# Altium schematic symbol library Schematic-Lib-JVillodres.SchLib: 34 symbols
Pins are listed as number, name and electrical type; pins without a type are passive.

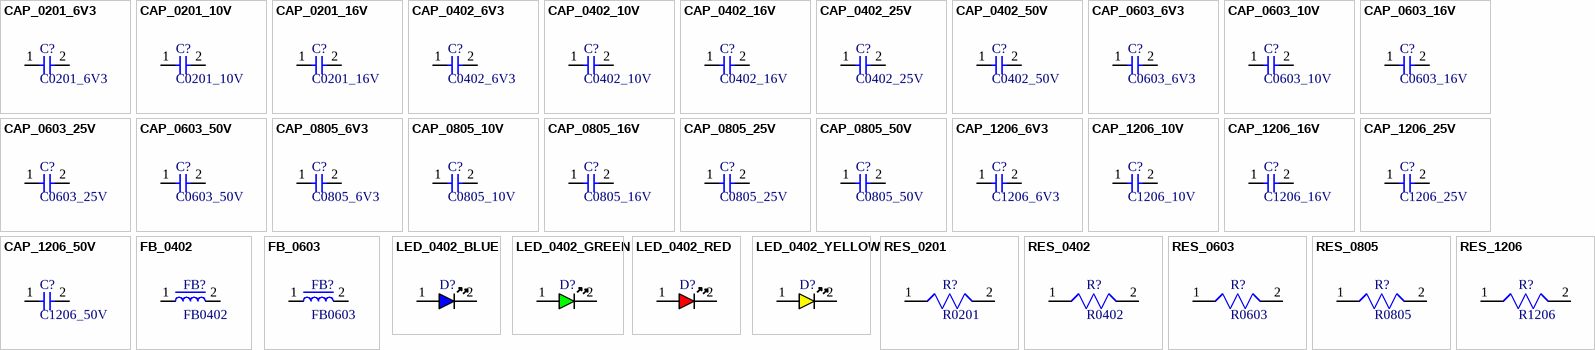
[diagram p0: symbols CAP_0201_6V3 to RES_1206]

## CAP_0201_6V3
designator C?, comment C0201_6V3
Capacitor SMD 0201 6.3V
footprint CAPC0603X23N (Chip Capacitor, 2-Leads, Body 0,60x0,30mm, IPC Medium Density)
footprint CAPC0603X23L (Chip Capacitor, 2-Leads, Body 0,60x0,30mm, IPC High Density)
footprint CAPC0603X23M (Chip Capacitor, 2-Leads, Body 0,60x0,30mm, IPC Low Density)
pins: 1, 2

## CAP_0201_10V
designator C?, comment C0201_10V
Capacitor SMD 0201 10V
footprint CAPC0603X23N (Chip Capacitor, 2-Leads, Body 0,60x0,30mm, IPC Medium Density)
footprint CAPC0603X23L (Chip Capacitor, 2-Leads, Body 0,60x0,30mm, IPC High Density)
footprint CAPC0603X23M (Chip Capacitor, 2-Leads, Body 0,60x0,30mm, IPC Low Density)
pins: 1, 2

## CAP_0201_16V
designator C?, comment C0201_16V
Capacitor SMD 0201 16V
footprint CAPC0603X23N (Chip Capacitor, 2-Leads, Body 0,60x0,30mm, IPC Medium Density)
footprint CAPC0603X23L (Chip Capacitor, 2-Leads, Body 0,60x0,30mm, IPC High Density)
footprint CAPC0603X23M (Chip Capacitor, 2-Leads, Body 0,60x0,30mm, IPC Low Density)
pins: 1, 2

## CAP_0402_6V3
designator C?, comment C0402_6V3
Capacitor SMD 0402 6.3V
footprint CAPC1005X55L (Chip Capacitor, 2-Leads, Body 1,00x0,50mm, IPC High Density)
footprint CAPC1005X55M (Chip Capacitor, 2-Leads, Body 1,00x0,50mm, IPC Low Density)
footprint CAPC1005X55N (Chip Capacitor, 2-Leads, Body 1,00x0,50mm, IPC Medium Density)
pins: 1, 2

## CAP_0402_10V
designator C?, comment C0402_10V
Capacitor SMD 0402 10V
footprint CAPC1005X55L (Chip Capacitor, 2-Leads, Body 1,00x0,50mm, IPC High Density)
footprint CAPC1005X55M (Chip Capacitor, 2-Leads, Body 1,00x0,50mm, IPC Low Density)
footprint CAPC1005X55N (Chip Capacitor, 2-Leads, Body 1,00x0,50mm, IPC Medium Density)
pins: 1, 2

## CAP_0402_16V
designator C?, comment C0402_16V
Capacitor SMD 0402 16V
footprint CAPC1005X55L (Chip Capacitor, 2-Leads, Body 1,00x0,50mm, IPC High Density)
footprint CAPC1005X55M (Chip Capacitor, 2-Leads, Body 1,00x0,50mm, IPC Low Density)
footprint CAPC1005X55N (Chip Capacitor, 2-Leads, Body 1,00x0,50mm, IPC Medium Density)
pins: 1, 2

## CAP_0402_25V
designator C?, comment C0402_25V
Capacitor SMD 0402 25V
footprint CAPC1005X55L (Chip Capacitor, 2-Leads, Body 1,00x0,50mm, IPC High Density)
footprint CAPC1005X55M (Chip Capacitor, 2-Leads, Body 1,00x0,50mm, IPC Low Density)
footprint CAPC1005X55N (Chip Capacitor, 2-Leads, Body 1,00x0,50mm, IPC Medium Density)
pins: 1, 2

## CAP_0402_50V
designator C?, comment C0402_50V
Capacitor SMD 0402 50V
footprint CAPC1005X55L (Chip Capacitor, 2-Leads, Body 1,00x0,50mm, IPC High Density)
footprint CAPC1005X55M (Chip Capacitor, 2-Leads, Body 1,00x0,50mm, IPC Low Density)
footprint CAPC1005X55N (Chip Capacitor, 2-Leads, Body 1,00x0,50mm, IPC Medium Density)
pins: 1, 2

## CAP_0603_6V3
designator C?, comment C0603_6V3
Capacitor SMD 0603 6.3V
footprint CAPC1608X90L (Chip Capacitor, 2-Leads, Body 1,60x0,80mm, IPC High Density)
footprint CAPC1608X90M (Chip Capacitor, 2-Leads, Body 1,60x0,80mm, IPC Low Density)
footprint CAPC1608X90N (Chip Capacitor, 2-Leads, Body 1,60x0,80mm, IPC Medium Density)
pins: 1, 2

## CAP_0603_10V
designator C?, comment C0603_10V
Capacitor SMD 0603 10V
footprint CAPC1608X90L (Chip Capacitor, 2-Leads, Body 1,60x0,80mm, IPC High Density)
footprint CAPC1608X90M (Chip Capacitor, 2-Leads, Body 1,60x0,80mm, IPC Low Density)
footprint CAPC1608X90N (Chip Capacitor, 2-Leads, Body 1,60x0,80mm, IPC Medium Density)
pins: 1, 2

## CAP_0603_16V
designator C?, comment C0603_16V
Capacitor SMD 0603 16V
footprint CAPC1608X90L (Chip Capacitor, 2-Leads, Body 1,60x0,80mm, IPC High Density)
footprint CAPC1608X90M (Chip Capacitor, 2-Leads, Body 1,60x0,80mm, IPC Low Density)
footprint CAPC1608X90N (Chip Capacitor, 2-Leads, Body 1,60x0,80mm, IPC Medium Density)
pins: 1, 2

## CAP_0603_25V
designator C?, comment C0603_25V
Capacitor SMD 0603 25V
footprint CAPC1608X90L (Chip Capacitor, 2-Leads, Body 1,60x0,80mm, IPC High Density)
footprint CAPC1608X90M (Chip Capacitor, 2-Leads, Body 1,60x0,80mm, IPC Low Density)
footprint CAPC1608X90N (Chip Capacitor, 2-Leads, Body 1,60x0,80mm, IPC Medium Density)
pins: 1, 2

## CAP_0603_50V
designator C?, comment C0603_50V
Capacitor SMD 0603 50V
footprint CAPC1608X90L (Chip Capacitor, 2-Leads, Body 1,60x0,80mm, IPC High Density)
footprint CAPC1608X90M (Chip Capacitor, 2-Leads, Body 1,60x0,80mm, IPC Low Density)
footprint CAPC1608X90N (Chip Capacitor, 2-Leads, Body 1,60x0,80mm, IPC Medium Density)
pins: 1, 2

## CAP_0805_6V3
designator C?, comment C0805_6V3
Capacitor SMD 0805 6.3V
footprint CAPC2012X95L (Chip Capacitor, 2-Leads, Body 2,00x1,25mm, IPC High Density)
footprint CAPC2012X95M (Chip Capacitor, 2-Leads, Body 2,00x1,25mm, IPC Low Density)
footprint CAPC2012X95N (Chip Capacitor, 2-Leads, Body 2,00x1,25mm, IPC Medium Density)
pins: 1, 2

## CAP_0805_10V
designator C?, comment C0805_10V
Capacitor SMD 0805 10V
footprint CAPC2012X95L (Chip Capacitor, 2-Leads, Body 2,00x1,25mm, IPC High Density)
footprint CAPC2012X95M (Chip Capacitor, 2-Leads, Body 2,00x1,25mm, IPC Low Density)
footprint CAPC2012X95N (Chip Capacitor, 2-Leads, Body 2,00x1,25mm, IPC Medium Density)
pins: 1, 2

## CAP_0805_16V
designator C?, comment C0805_16V
Capacitor SMD 0805 16V
footprint CAPC2012X95L (Chip Capacitor, 2-Leads, Body 2,00x1,25mm, IPC High Density)
footprint CAPC2012X95M (Chip Capacitor, 2-Leads, Body 2,00x1,25mm, IPC Low Density)
footprint CAPC2012X95N (Chip Capacitor, 2-Leads, Body 2,00x1,25mm, IPC Medium Density)
pins: 1, 2

## CAP_0805_25V
designator C?, comment C0805_25V
Capacitor SMD 0805 25V
footprint CAPC2012X95L (Chip Capacitor, 2-Leads, Body 2,00x1,25mm, IPC High Density)
footprint CAPC2012X95M (Chip Capacitor, 2-Leads, Body 2,00x1,25mm, IPC Low Density)
footprint CAPC2012X95N (Chip Capacitor, 2-Leads, Body 2,00x1,25mm, IPC Medium Density)
pins: 1, 2

## CAP_0805_50V
designator C?, comment C0805_50V
Capacitor SMD 0805 50V
footprint CAPC2012X95L (Chip Capacitor, 2-Leads, Body 2,00x1,25mm, IPC High Density)
footprint CAPC2012X95M (Chip Capacitor, 2-Leads, Body 2,00x1,25mm, IPC Low Density)
footprint CAPC2012X95N (Chip Capacitor, 2-Leads, Body 2,00x1,25mm, IPC Medium Density)
pins: 1, 2

## CAP_1206_6V3
designator C?, comment C1206_6V3
Capacitor SMD 1206 6.3V
footprint CAPC3216X180L (Chip Capacitor, 2-Leads, Body 3,20x1,60mm, IPC High Density)
footprint CAPC3216X180M (Chip Capacitor, 2-Leads, Body 3,20x1,60mm, IPC Low Density)
footprint CAPC3216X180N (Chip Capacitor, 2-Leads, Body 3,20x1,60mm, IPC Medium Density)
pins: 1, 2

## CAP_1206_10V
designator C?, comment C1206_10V
Capacitor SMD 1206 10V
footprint CAPC3216X180L (Chip Capacitor, 2-Leads, Body 3,20x1,60mm, IPC High Density)
footprint CAPC3216X180M (Chip Capacitor, 2-Leads, Body 3,20x1,60mm, IPC Low Density)
footprint CAPC3216X180N (Chip Capacitor, 2-Leads, Body 3,20x1,60mm, IPC Medium Density)
pins: 1, 2

## CAP_1206_16V
designator C?, comment C1206_16V
Capacitor SMD 1206 16V
footprint CAPC3216X180L (Chip Capacitor, 2-Leads, Body 3,20x1,60mm, IPC High Density)
footprint CAPC3216X180M (Chip Capacitor, 2-Leads, Body 3,20x1,60mm, IPC Low Density)
footprint CAPC3216X180N (Chip Capacitor, 2-Leads, Body 3,20x1,60mm, IPC Medium Density)
pins: 1, 2

## CAP_1206_25V
designator C?, comment C1206_25V
Capacitor SMD 1206 25V
footprint CAPC3216X180L (Chip Capacitor, 2-Leads, Body 3,20x1,60mm, IPC High Density)
footprint CAPC3216X180M (Chip Capacitor, 2-Leads, Body 3,20x1,60mm, IPC Low Density)
footprint CAPC3216X180N (Chip Capacitor, 2-Leads, Body 3,20x1,60mm, IPC Medium Density)
pins: 1, 2

## CAP_1206_50V
designator C?, comment C1206_50V
Capacitor SMD 1206 50V
footprint CAPC3216X180L (Chip Capacitor, 2-Leads, Body 3,20x1,60mm, IPC High Density)
footprint CAPC3216X180M (Chip Capacitor, 2-Leads, Body 3,20x1,60mm, IPC Low Density)
footprint CAPC3216X180N (Chip Capacitor, 2-Leads, Body 3,20x1,60mm, IPC Medium Density)
pins: 1, 2

## FB_0402
designator FB?, comment FB0402
Ferrite Bead SMD 0402
footprint FBC1005X55L (Chip Ferrite Bead, 2-Leads, Body 1,00x0,50mm, IPC High Density)
footprint FBC1005X55M (Chip Ferrite Bead, 2-Leads, Body 1,00x0,50mm, IPC Low Density)
footprint FBC1005X55N (Chip Ferrite Bead, 2-Leads, Body 1,00x0,50mm, IPC Medium Density)
pins: 1, 2

## FB_0603
designator FB?, comment FB0603
Ferrite Bead SMD 0603
footprint FBC1608X95L (Chip Ferrite Bead, 2-Leads, Body 1,60x0,80mm, IPC High Density)
footprint FBC1608X95M (Chip Ferrite Bead, 2-Leads, Body 1,60x0,80mm, IPC Low Density)
footprint FBC1608X95N (Chip Ferrite Bead, 2-Leads, Body 1,60x0,80mm, IPC Medium Density)
pins: 1, 2

## LED_0402_BLUE
designator D?
LED BLUE SMD 0402
footprint LEDC0402
pins: 1 A, 2 K

## LED_0402_GREEN
designator D?
LED GREEN SMD 0402
footprint LEDC0402
pins: 1 A, 2 K

## LED_0402_RED
designator D?
LED RED SMD 0402
footprint LEDC0402
pins: 1 A, 2 K

## LED_0402_YELLOW
designator D?
LED YELLOW SMD 0402
footprint LEDC0402
pins: 1 A, 2 K

## RES_0201
designator R?, comment R0201
Resistor SMD 0201
footprint RESC0603X26L (Chip Resistor, 2-Leads, Body 0,60x0,30mm, IPC High Density)
footprint RESC0603X26M (Chip Resistor, 2-Leads, Body 0,60x0,30mm, IPC Low Density)
footprint RESC0603X26N (Chip Resistor, 2-Leads, Body 0,60x0,30mm, IPC Medium Density)
pins: 1, 2

## RES_0402
designator R?, comment R0402
Resistor SMD 0402
footprint RESC1005X37L (Chip Resistor, 2-Leads, Body 1,00x0,50mm, IPC High Density)
footprint RESC1005X37M (Chip Resistor, 2-Leads, Body 1,00x0,50mm, IPC Low Density)
footprint RESC1005X37N (Chip Resistor, 2-Leads, Body 1,00x0,50mm, IPC Medium Density)
pins: 1, 2

## RES_0603
designator R?, comment R0603
Resistor SMD 0603
footprint RESC1608X47L (Chip Resistor, 2-Leads, Body 1,60x0,80mm, IPC High Density)
footprint RESC1608X47M (Chip Resistor, 2-Leads, Body 1,60x0,80mm, IPC Low Density)
footprint RESC1608X47N (Chip Resistor, 2-Leads, Body 1,60x0,80mm, IPC Medium Density)
pins: 1, 2

## RES_0805
designator R?, comment R0805
Resistor SMD 0805
footprint RESC2012X47L (Chip Resistor, 2-Leads, Body 2,00x1,25mm, IPC High Density)
footprint RESC2012X47M (Chip Resistor, 2-Leads, Body 2,00x1,25mm, IPC Low Density)
footprint RESC2012X47N (Chip Resistor, 2-Leads, Body 2,00x1,25mm, IPC Medium Density)
pins: 1, 2

## RES_1206
designator R?, comment R1206
Resistor SMD 1206
footprint RESC3216X58L (Chip Resistor, 2-Leads, Body 3,20x1,60mm, IPC High Density)
footprint RESC3216X58M (Chip Resistor, 2-Leads, Body 3,20x1,60mm, IPC Low Density)
footprint RESC3216X58N (Chip Resistor, 2-Leads, Body 3,20x1,60mm, IPC Medium Density)
pins: 1, 2